# Altium footprint library ITU_Rocket_Main_Board.PcbLib: 34 footprints (part 1 of 3)
Each footprint in its own frame and in the unit in brackets; x right, y up, seen from the top. Pads: shape width x height; smd on the part's side, far side on the other; paste and mask are expansions set on the pad; w line width, h text height; cw(c..) or ccw(c..) is an arc to the next point about the centre after c.
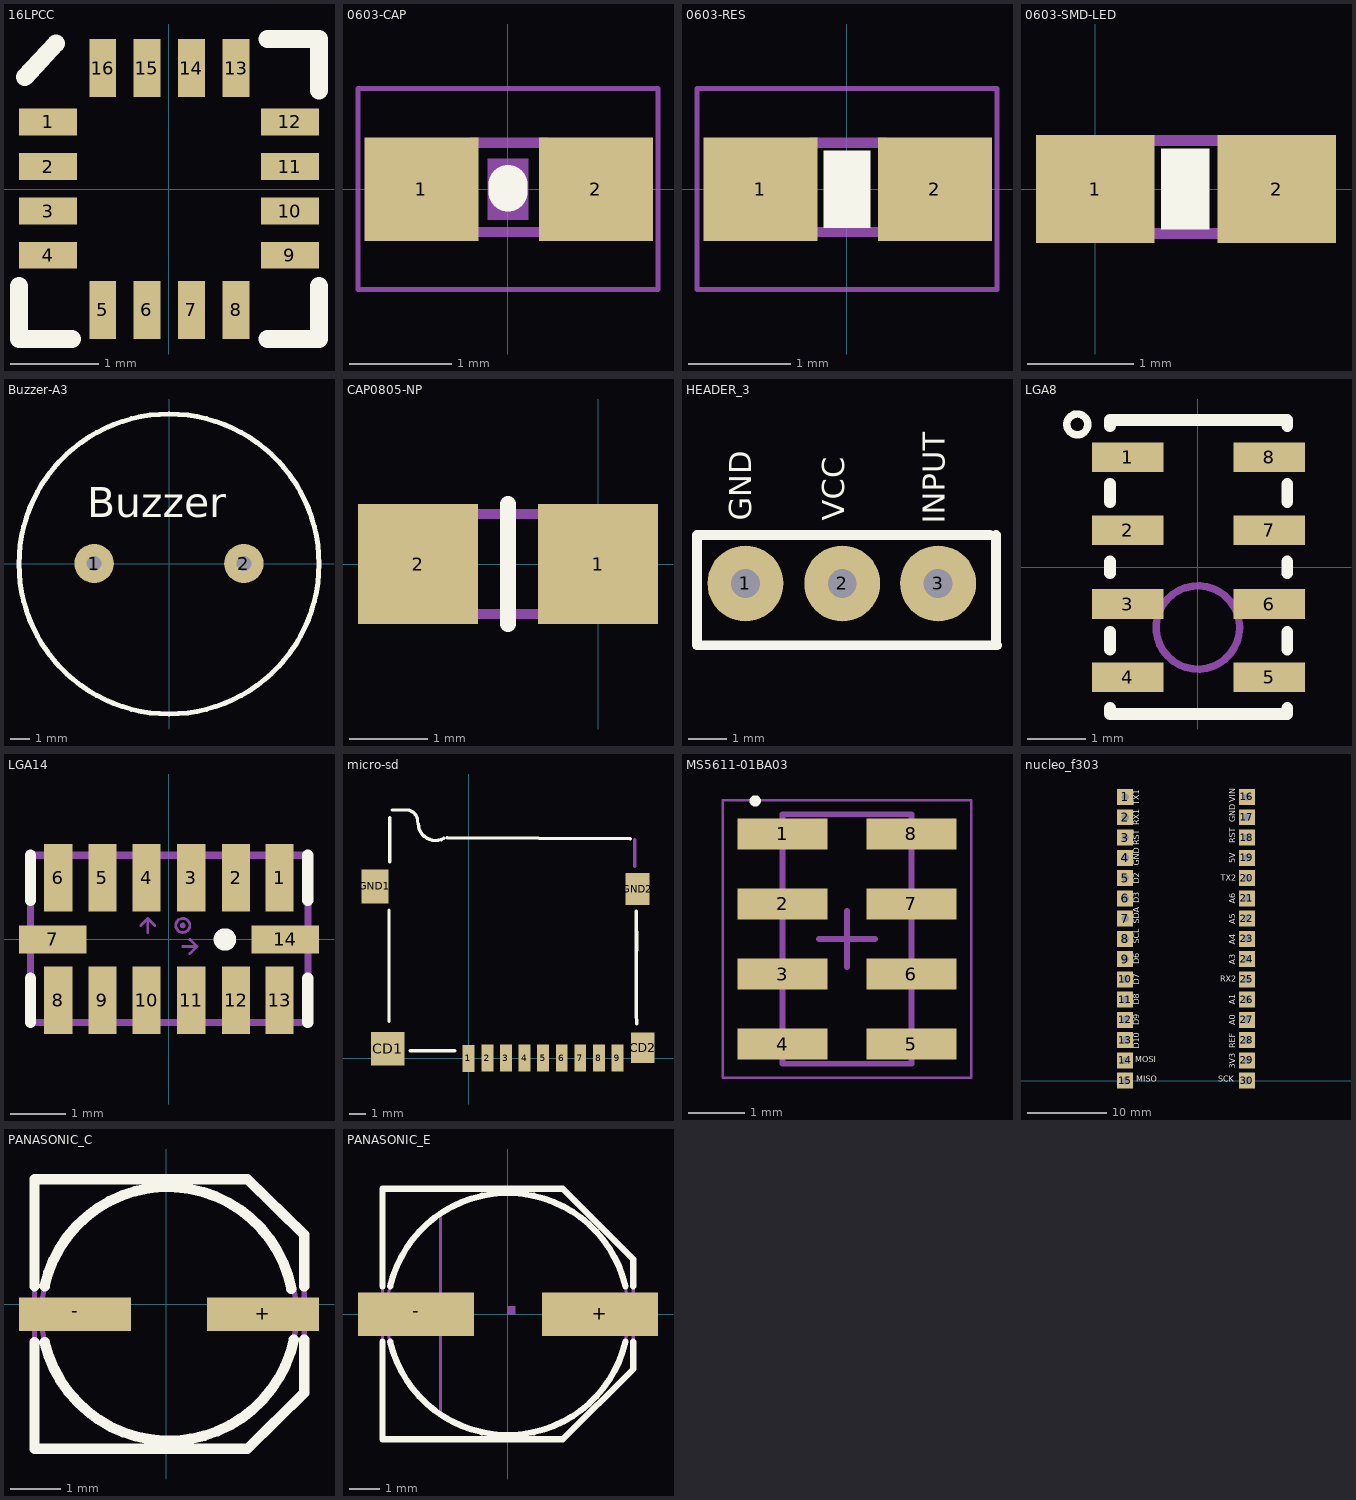
[diagram p0: the footprints below, top view; thin cyan lines are the x and y axes]

## 16LPCC [mil]
pads (16):
  rect 26x12 smd: 1(-53.94,30) 2(-53.94,10) 3(-53.94,-9.84) 4(-53.94,-29.53) 9(54,-29.53) 10(54,-9.84) 11(54,10) 12(54,30)
  rect 12x26 smd: 5(-29.53,-53.94) 6(-9.84,-53.94) 7(10,-53.94) 8(30,-53.94) 13(30,54) 14(10,54) 15(-9.84,54) 16(-29.53,54)
Top Overlay:
  lines w8: -66.93,-43.31 -66.93,-66.93 -43.31,-66.93 ; -64.37,50 -50.39,65 ; 44,-66.93 67,-66.93 67,-43.31 ; 44,67 67,67 67,44
Mechanical 2:
Mechanical 4:
3D body: height 39.37, standoff 0, extent -61.02,-61.02 61.03,61.03

## 0603-CAP [mil]
pads (2):
  rect 44x40 smd: 1(-33.46,0) 2(34,0)
Top Overlay:
  lines w15: 0,-1.1 0,2
Mechanical 2:
Mechanical 4:
Mechanical 6:
  rectangle: -7.87,-11.81 8,12
Mechanical 16:
  rectangle: -33,-18.5 -13.31,19
  rectangle: 13,-18.5 33,19
  lines w4: -14.02,-16.5 15,-16.5 ; -14.02,18 15,18
Mechanical 27:
  lines w2: -57.99,-38.7 58,-38.7 58,39 -57.99,39 -57.99,-38.7
3D body: height 34.65, standoff -0.79, extent -38.39,-17.72 28.54,17.72

## 0603-RES [mil]
pads (2):
  rect 44x40 smd: 1(-33.46,0) 2(34,0)
Top Overlay:
  rectangle: -9,-15 9,15
Mechanical 2:
Mechanical 4:
Mechanical 6:
  rectangle: -7.87,-11.81 8,12
Mechanical 16:
  rectangle: 13,-18.5 33,19
  rectangle: -33,-18.5 -13.31,19
  lines w4: -14.02,-16.5 15,-16.5 ; -14.02,18 15,18
Mechanical 27:
  lines w2: -57.99,-38.7 -57.99,39 58,39 58,-38.7 -57.99,-38.7
3D body: height 17.72, standoff 0, extent -31.49,-15.75 31.5,15.76

## 0603-SMD-LED [mil]
pads (2):
  rect 44x40 smd: 1(0,0) 2(67.46,0)
Top Overlay:
  rectangle: 24.46,-15 42.46,15
Mechanical 2:
Mechanical 4:
Mechanical 6:
  rectangle: 25.59,-11.81 41.46,12
Mechanical 16:
  rectangle: 46.46,-18.5 66.46,19
  rectangle: 0.46,-18.5 20.15,19
  lines w4: 19.45,-16.5 48.46,-16.5 ; 19.45,18 48.46,18
3D body: height 14.96, standoff -0.39, extent 0.51,-16.74 63.5,14.75

## Buzzer-A3 [mm]
pads (2):
  round 2 hole 0.762: 1(-3.8,0) 2(3.8,0)
Top Overlay:
  circle w0.254: c0,-0.025 r7.607
  text "Buzzer" at -4.15,2.35 h1.52
3D body: height 9.5, standoff -5.5, extent -6,-6 6,6

## CAP0805-NP [mil] "CAP0805-NP"
pads (2):
  rect 60x60 smd: 1(0,0) 2(-90,0)
Top Overlay:
  lines w8: -45,-30 -45,30
Mechanical 3:
Mechanical 5:
Mechanical 30:
  lines w5: -85,-25 -5,-25 -5,25 -85,25 -85,-25

## HEADER_3 [mil]
pads (3):
  round 78.74 hole 30: 1(-47004,-48208) 2(-46903.61,-48208) 3(-46804.2,-48208)
Top Overlay:
  lines w10: -46750.06,-48157.8 -47054.2,-48157.8 -47054.2,-48271.98 -46743.17,-48271.98 ; -46744.16,-48270.99 -46744.16,-48157.8
  text "INPUT" at -46789.43,-48145.99 h39.37
  text "VCC" at -46893.76,-48143.04 h39.37
  text "GND" at -46990.22,-48143.04 h39.37
Mechanical 5:
  lines w10: -46744.16,-48270.99 -46743.17,-48271.98
3D body: height 373.85, standoff -125.98, extent -47054,-48258 -46754,-48158

## LGA8 [mil]
pads (8):
  rect 48x20 smd: 1(-47.24,74) 2(-47.24,25) 3(-47.24,-24.61) 4(-47.24,-73.82) 5(48,-73.82) 6(48,-24.61) 7(48,25) 8(48,74)
Top Overlay:
  circle w5: c-81,96 r7
  lines w8: -59.06,-94.49 -59.06,-98.43 60,-98.43 60,-94.49 ; -59.06,-55.12 -59.06,-43.31 ; -59.06,-3.94 -59.06,4 ; -59.06,44 -59.06,56 ; -59.06,95 -59.06,99 60,99 60,95 ; 60,-55.12 60,-43.31 ; 60,-3.94 60,4 ; 60,44 60,56
Mechanical 2:
Mechanical 4:
Mechanical 16:
  circle w5: c0,-40.35 r28
3D body: height 44.55, standoff 2.23, extent -58.07,-99.41 60.04,97.44

## LGA14 [mil]
pads (14):
  rect 20x48 smd: 1(79,44) 2(48,44) 3(16,44) 4(-15.75,44) 5(-47.24,44) 6(-78.74,44) 8(-78.74,-43.31) 9(-47.24,-43.31) 10(-15.75,-43.31) 11(16,-43.31) 12(48,-43.31) 13(79,-43.31)
  rect 48x20 smd: 7(-82.68,0) 14(83,0)
Top Overlay:
  circle w8: c40,0 r4
  lines w8: -98.43,-59.06 -98.43,-27.56 ; -98.43,28 -98.43,60 ; 99,-59.06 99,-27.56 ; 99,28 99,60
Mechanical 2:
Mechanical 4:
Mechanical 16:
  circle w2: c10,10 r5
  circle w2: c10,10 r1
  lines w2: -20,10 -15,15 ; -15,5 -15,15 ; -10,10 -15,15 ; 10,-5 20,-5 ; 15,-10 20,-5 ; 15,0 20,-5
  lines w5: -98.43,-59.06 -98.43,60 99,60 99,-59.06 -98.43,-59.06
  text "X" at -5,-10 h18.6
  text "Y" at -20,-10 h18.6
  text "Z" at -5,5 h18.6
3D body: height 40.57, standoff -15.9, extent -96.46,-59.06 100.39,59.06

## micro-sd [mm]
pads (13):
  rect 0.7x1.6 smd: 1(-0.025,-0.025) 2(1.1,0) 3(2.2,0) 4(3.3,0) 5(4.4,0) 6(5.5,0) 7(6.6,0) 8(7.7,0) 9(8.8,0)
  rect 2x2 smd: CD1(-4.8,0.55)
  rect 1.4x1.8 smd: CD2(10.3,0.6)
  rect 1.6x2 smd: GND1(-5.56,10.16)
  rect 1.422x1.905 smd: GND2(10,10)
Top Overlay:
  lines w0.203: -4.725,2.175 -4.725,8.75 ; -4.675,11.625 -4.675,14.225 ; -4.538,14.686 -3.738,14.686 cw(c-3.693,14.031) -3.038,13.975 ; -3.475,0.425 -2.7,0.425 -1.6,0.425 -0.825,0.425 ; -2.994,13.87 ccw(c-1.975,13.9) -1.484,13.006 ; -1.275,13.05 9.55,12.975 ; 9.95,2.02 9.925,2.624 9.925,8.682 9.95,6.375
Mechanical 16:
  lines w0.203: 9.825,11.35 9.825,12.925
3D body: height 1.93, standoff -0.02, extent -4.379,-0.657 10.221,13.843

## MS5611-01BA03 [mm]
pads (8):
  rect 1.6x0.55 smd: 1(26.282,-104.297) 2(26.282,-105.547) 3(26.282,-106.797) 4(26.282,-108.047) 5(28.582,-108.047) 6(28.582,-106.797) 7(28.582,-105.547) 8(28.582,-104.297)
Top Overlay:
  circle w0.1: c25.795,-103.709 r0.05
Mechanical 13:
  lines w0.1: 26.282,-108.397 26.282,-103.947 28.582,-103.947 28.582,-108.397 26.282,-108.397
Mechanical 15:
  lines w0.05: 25.217,-108.647 25.217,-103.697 29.647,-103.697 29.647,-108.647 25.217,-108.647
  lines w0.1: 26.932,-106.172 27.932,-106.172 ; 27.432,-106.672 27.432,-105.672
3D body: height 1, standoff 0, extent 25.932,-108.397 28.932,-103.947

## nucleo_f303 [mm] "breakoutboard"
pads (30):
  rect 2x2 hole 0.914: 1(-55.88,35.56) 2(-55.88,33.02) 3(-55.88,30.48) 4(-55.88,27.94) 5(-55.88,25.4) 6(-55.88,22.86) 7(-55.88,20.32) 8(-55.88,17.78) 9(-55.88,15.24) 10(-55.88,12.7) 11(-55.88,10.16) 12(-55.88,7.62) 13(-55.88,5.08) 14(-55.88,2.54) 15(-55.88,0) 16(-40.64,35.56) 17(-40.64,33.02) 18(-40.64,30.48) 19(-40.64,27.94) 20(-40.64,25.4) 21(-40.64,22.86) 22(-40.64,20.32) 23(-40.64,17.78) 24(-40.64,15.24) 25(-40.64,12.7) 26(-40.64,10.16) 27(-40.64,7.62) 28(-40.64,5.08) 29(-40.64,2.54) 30(-40.64,0)
Top Overlay:
  text "*" at -54.661,21.92 h0.79
  text "*" at -54.661,16.866 h0.79
  text "*" at -54.661,14.3 h0.79
  text "*" at -54.661,1.6 h0.79
  text "*" at -54.661,4.115 h0.79
  text "*" at -54.661,6.68 h0.79
  text "VIN" at -41.808,34.9 h1.26
  text "GND" at -41.808,32.385 h1.26
  text "RST" at -41.808,29.769 h1.26
  text "5V" at -41.808,27.229 h1.26
  text "A6" at -41.808,22.174 h1.26
  text "A5" at -41.808,19.634 h1.26
  text "A4" at -41.808,17.069 h1.26
  text "A3" at -41.808,14.554 h1.26
  text "A1" at -41.808,9.5 h1.26
  text "A0" at -41.808,6.934 h1.26
  text "REF" at -41.808,4.039 h1.26
  text "3V3" at -41.808,1.524 h1.26
  text "MISO" at -54.525,-0.375 h1.26
  text "D10" at -53.899,4.013 h1.26
  text "D9" at -53.899,6.96 h1.26
  text "D8" at -53.899,9.525 h1.26
  text "D7" at -53.899,12.014 h1.26
  text "D6" at -53.899,14.58 h1.26
  text "SCL" at -53.899,17.17 h1.26
  text "SDA" at -53.899,19.66 h1.26
  text "D3" at -53.899,22.225 h1.26
  text "D2" at -53.899,24.714 h1.26
  text "GND" at -53.899,26.949 h1.26
  text "RST" at -53.899,29.489 h1.26
  text "RX1" at -53.899,32.004 h1.26
  text "TX1" at -53.899,34.544 h1.26
  text "MOSI" at -54.625,2.075 h1.26
  text "SCK" at -44.225,-0.375 h1.26
  text "RX2" at -43.975,12.15 h1.26
  text "TX2" at -43.925,24.825 h1.26
Mechanical 2:
Mechanical 3:
Mechanical 4:
  text ">VALUE" at -42.748,36.855 h0.94
3D body: height 12.78, standoff -5.48, extent -57.57,-3.8 -39.03,41.029

## PANASONIC_C [mil]
pads (2):
  rect 87x26 smd: +(75,-7.87) -(-70.87,-7.87)
Top Overlay:
  lines w8: -102.36,-29.53 -102.36,-112.2 63,-112.2 107,-68.9 107,-27.56 ; -102.36,14 -102.36,97 63,97 107,54 107,14 ; -94.49,-29.53 ccw(c2.03,-6.83) 99,-27.56 ; -94.49,14 cw(c1.05,-6.74) 97,12
Mechanical 2:
Mechanical 4:
Mechanical 16:
  circle w4: c2,-7.87 r99
  lines w4: -102.36,-112.2 -102.36,97 63,97 107,54 107,-68.9 63,-112.2 -102.36,-112.2
3D body: height 212.8, standoff -0.2, extent -116.14,-111.21 116.14,97.45

## PANASONIC_E [mil]
pads (2):
  rect 150x56 smd: +(119,0) -(-118.11,0)
Top Overlay:
  lines w8: -161.42,-35.43 -161.42,-161.42 71,-161.42 162,-70.87 162,-35.43 ; -161.42,36 -161.42,162 71,162 162,71 162,36 ; -151.57,-35.43 ccw(c0.21,0.05) 152,-35.43 ; -151.57,36 cw(c0.21,0.52) 152,36
Mechanical 2:
Mechanical 4:
Mechanical 16:
  circle w4: c0,0 r156
  rectangle: 150,-13.78 178,14
  rectangle: -177.17,-13.78 -149.61,14
  region: 0,0 10,0 10,10 0,10
  lines w4: -86.61,-127.95 -86.61,128 ; -161.42,-161.42 -161.42,162 71,162 162,71 162,-70.87 71,-161.42 -161.42,-161.42
3D body: height 401.77, standoff -0.2, extent -192.92,-160.43 196.85,166.34

## PCBComponent_1 [mil]

## PCBComponent_1 - duplicate [mil]